# EAGLE library part SLT-60 (library slt-60)
60-pin connector side slot
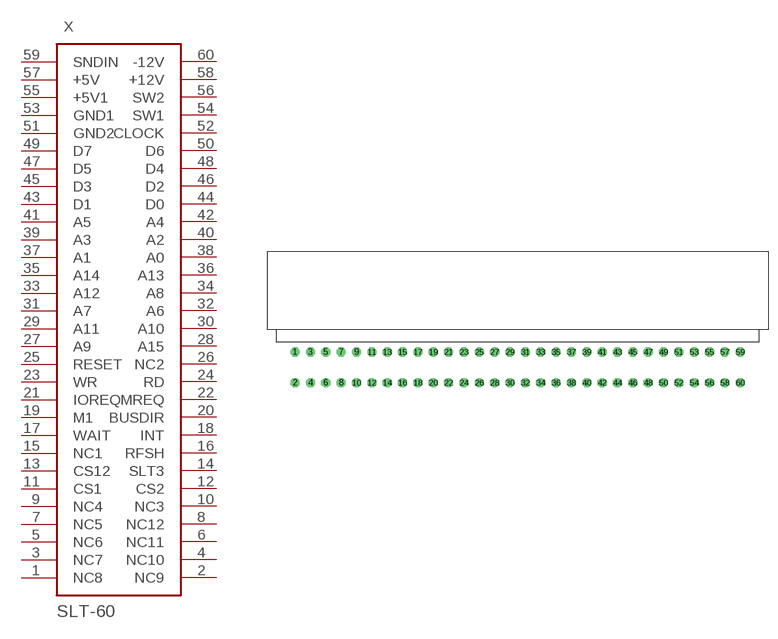
[diagram p0: symbol with the pads of SLT-60; footprint SLT-60]

Designator prefix X

## SLT-60  [SLT-60]
1  NC8
2  NC9
3  NC7
4  NC10
5  NC6
6  NC11
7  NC5
8  NC12
9  NC4
10  NC3
11  CS1
12  CS2
13  CS12
14  SLT3
15  NC1
16  RFSH
17  WAIT
18  INT
19  M1
20  BUSDIR
21  IOREQ
22  MREQ
23  WR
24  RD
25  RESET
26  NC2
27  A9
28  A15
29  A11
30  A10
31  A7
32  A6
33  A12
34  A8
35  A14
36  A13
37  A1
38  A0
39  A3
40  A2
41  A5
42  A4
43  D1
44  D0
45  D3
46  D2
47  D5
48  D4
49  D7
50  D6
51  GND2
52  CLOCK
53  GND1
54  SW1
55  +5V1
56  SW2
57  +5V
58  +12V
59  SNDIN
60  -12V

## Footprint SLT-60 (pad centres in mm)
CONNECTOR 60 pin side slot angled
drill 1 octagon: 1 -36.83,3.81; 2 -36.83,-1.27; 3 -34.29,3.81; 4 -34.29,-1.27; 5 -31.75,3.81; 6 -31.75,-1.27; 7 -29.21,3.81; 8 -29.21,-1.27; 9 -26.67,3.81; 10 -26.67,-1.27; 11 -24.13,3.81; 12 -24.13,-1.27; 13 -21.59,3.81; 14 -21.59,-1.27; 15 -19.05,3.81; 16 -19.05,-1.27; 17 -16.51,3.81; 18 -16.51,-1.27; 19 -13.97,3.81; 20 -13.97,-1.27; 21 -11.43,3.81; 22 -11.43,-1.27; 23 -8.89,3.81; 24 -8.89,-1.27; 25 -6.35,3.81; 26 -6.35,-1.27; 27 -3.81,3.81; 28 -3.81,-1.27; 29 -1.27,3.81; 30 -1.27,-1.27; 31 1.27,3.81; 32 1.27,-1.27; 33 3.81,3.81; 34 3.81,-1.27; 35 6.35,3.81; 36 6.35,-1.27; 37 8.89,3.81; 38 8.89,-1.27; 39 11.43,3.81; 40 11.43,-1.27; 41 13.97,3.81; 42 13.97,-1.27; 43 16.51,3.81; 44 16.51,-1.27; 45 19.05,3.81; 46 19.05,-1.27; 47 21.59,3.81; 48 21.59,-1.27; 49 24.13,3.81; 50 24.13,-1.27; 51 26.67,3.81; 52 26.67,-1.27; 53 29.21,3.81; 54 29.21,-1.27; 55 31.75,3.81; 56 31.75,-1.27; 57 34.29,3.81; 58 34.29,-1.27; 59 36.83,3.81; 60 36.83,-1.27